# Altium schematic symbol library SCH - SWITCH - C&K SK-12F17-G 7.SCHLIB: 1 symbol
Pins are listed as number, name and electrical type; pins without a type are passive.

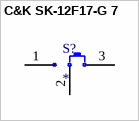
[diagram p0: symbol C&K SK-12F17-G 7]

## C&K SK-12F17-G 7
designator S?
pins: 1, 2 COM, 3